# Altium footprint library PCB - LEADED - SOP65P490X110-8L25N.PcbLib: 1 footprints
Each footprint in its own frame and in the unit in brackets; x right, y up, seen from the top. Pads: shape width x height; smd on the part's side, far side on the other; paste and mask are expansions set on the pad; w line width, h text height; cw(c..) or ccw(c..) is an arc to the next point about the centre after c.
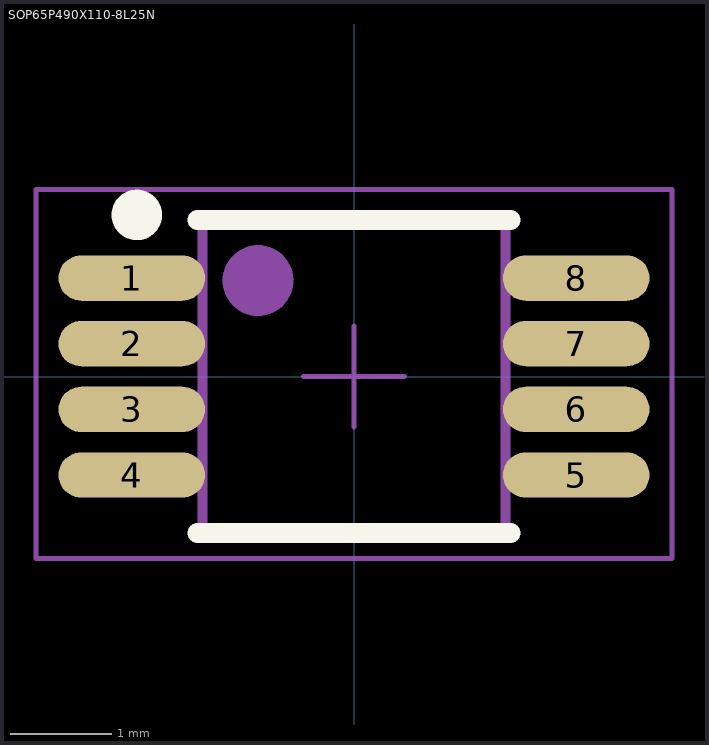
[diagram p0: the footprint, top view; thin cyan lines are the x and y axes]

## SOP65P490X110-8L25N [mm] "Small Outline Pkg (SOP), 0.65 mm pitch; 8 pin, 3.00 mm L X 3.00 mm W X 1.10 mm H body"
height 1.1
pads (8):
  oval 1.45x0.45 smd: 1(-2.2,0.975) 2(-2.2,0.325) 3(-2.2,-0.325) 4(-2.2,-0.975) 5(2.2,-0.975) 6(2.2,-0.325) 7(2.2,0.325) 8(2.2,0.975)
Top Overlay:
  circle w0.25: c-2.15,1.6 r0.125
  lines w0.2: -1.55,-1.55 1.55,-1.55 ; -1.55,1.55 1.55,1.55
Top Assembly:
  circle w0.5: c-0.95,0.95 r0.1
  lines w0.05: -1.525,-1.125 -2.5,-1.125 -2.5,-0.825 -1.525,-0.825 ; -1.525,-0.475 -2.5,-0.475 -2.5,-0.175 -1.525,-0.175 ; -1.525,0.175 -2.5,0.175 -2.5,0.475 -1.525,0.475 ; -1.525,0.825 -2.5,0.825 -2.5,1.125 -1.525,1.125 ; 1.525,-1.125 2.5,-1.125 2.5,-0.825 1.525,-0.825 ; 1.525,-0.475 2.5,-0.475 2.5,-0.175 1.525,-0.175 ; 1.525,0.175 2.5,0.175 2.5,0.475 1.525,0.475 ; 1.525,0.825 2.5,0.825 2.5,1.125 1.525,1.125
  lines w0.1: -1.5,-1.5 1.5,-1.5 1.5,1.5 -1.5,1.5 -1.5,-1.5
Top Courtyard:
  lines w0.05: -3.15,-1.8 3.15,-1.8 3.15,1.85 -3.15,1.85 -3.15,-1.8
Top Designator:
  text ".Designator" at -1.25,-1.2 h1
Top Component Center:
  lines w0.05: -0.5,0 0.5,0 ; 0,-0.5 0,0.5
3D body "User Library-msop-8.STEP": height 1.15, standoff 0, extent -2.45,-1.5 2.45,1.5